# Altium integrated library Maxim Hot-Swap, PoE and Power Switching.IntLib: 10 symbols
Pins are listed as number, name and electrical type; pins without a type are passive.

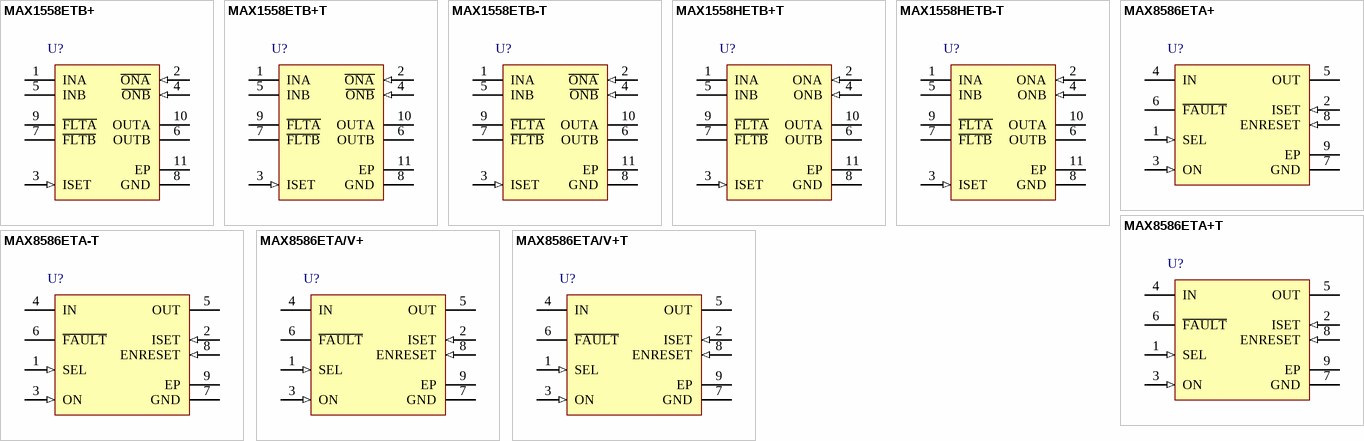
[diagram p0: symbols MAX1558ETB+ to MAX8586ETA/V+T]

## MAX1558ETB+
designator U?
Dual 1.2A Programmable-Current USB Switch with Autoreset, 10-Pin TDFN, -40°C to +85°C, Pb-Free; DatasheetVersion: Rev 2, Mar-2008; PackageVersion: revJ, 2009; PackageReference: T1033+1; PackageDescription: 10-Pin Plastic Very Very Thin Dual Flatpack No Leads, Exposed Pad, 3 x 3 x 0.8 mm Body, TDFN-EP, Pb-Free; Code_JEDEC: MO-229-WEED-3; ComponentLink1Description: Manufacturer URL; ComponentLink1URL: http://www.maxim-ic.com; ComponentLink2Description: Datasheet; ComponentLink2URL: http://datasheets.maxim-ic.com/en/ds/MAX1558-MAX1558H.pdf; ComponentLink3Description: Package Specification; ComponentLink3URL: http://pdfserv.maxim-ic.com/package_dwgs/21-0137.PDF
footprint T1033+1_V (SON, 10-Leads, Body 3x3mm, Pitch 0.5mm, Thermal Pad 2.35x1.58mm, Maxim Recommended)
pins: 1 INA (power), 2 ~{ONA} (in), 3 ISET (in), 4 ~{ONB} (in), 5 INB (power), 6 OUTB (power), 7 ~{FLTB} (oc), 8 GND (power), 9 ~{FLTA} (oc), 10 OUTA (power), 11 EP (power)

## MAX1558ETB+T
designator U?
Dual 1.2A Programmable-Current USB Switch with Autoreset, 10-Pin TDFN, -40°C to +85°C, Pb-Free, Tape and Reel; DatasheetVersion: Rev 2, Mar-2008; PackageVersion: revJ, 2009; PackageReference: T1033+1; PackageDescription: 10-Pin Plastic Very Very Thin Dual Flatpack No Leads, Exposed Pad, 3 x 3 x 0.8 mm Body, TDFN-EP, Pb-Free; Code_JEDEC: MO-229-WEED-3; ComponentLink1Description: Manufacturer URL; ComponentLink1URL: http://www.maxim-ic.com; ComponentLink2Description: Datasheet; ComponentLink2URL: http://datasheets.maxim-ic.com/en/ds/MAX1558-MAX1558H.pdf; ComponentLink3Description: Package Specification; ComponentLink3URL: http://pdfserv.maxim-ic.com/package_dwgs/21-0137.PDF
footprint T1033+1_V (SON, 10-Leads, Body 3x3mm, Pitch 0.5mm, Thermal Pad 2.35x1.58mm, Maxim Recommended)
pins: 1 INA (power), 2 ~{ONA} (in), 3 ISET (in), 4 ~{ONB} (in), 5 INB (power), 6 OUTB (power), 7 ~{FLTB} (oc), 8 GND (power), 9 ~{FLTA} (oc), 10 OUTA (power), 11 EP (power)

## MAX1558ETB-T
designator U?
Dual 1.2A Programmable-Current USB Switch with Autoreset, 10-Pin TDFN, -40°C to +85°C, Tape and Reel; DatasheetVersion: Rev 2, Mar-2008; PackageVersion: revJ, 2009; PackageReference: T1033-1; PackageDescription: 10-Pin Plastic Very Very Thin Dual Flatpack No Leads, Exposed Pad, 3 x 3 x 0.8 mm Body, TDFN-EP; Code_JEDEC: MO-229-WEED-3; ComponentLink1Description: Manufacturer URL; ComponentLink1URL: http://www.maxim-ic.com; ComponentLink2Description: Datasheet; ComponentLink2URL: http://datasheets.maxim-ic.com/en/ds/MAX1558-MAX1558H.pdf; ComponentLink3Description: Package Specification; ComponentLink3URL: http://pdfserv.maxim-ic.com/package_dwgs/21-0137.PDF
footprint T1033-1_V (SON, 10-Leads, Body 3x3mm, Pitch 0.5mm, Thermal Pad 2.35x1.58mm, Maxim Recommended)
pins: 1 INA (power), 2 ~{ONA} (in), 3 ISET (in), 4 ~{ONB} (in), 5 INB (power), 6 OUTB (power), 7 ~{FLTB} (oc), 8 GND (power), 9 ~{FLTA} (oc), 10 OUTA (power), 11 EP (power)

## MAX1558HETB+T
designator U?
Dual 1.2A Programmable-Current USB Switch with Autoreset, 10-Pin TDFN, -40°C to +85°C, Pb-Free, Tape and Reel; DatasheetVersion: Rev 2, Mar-2008; PackageVersion: revJ, 2009; PackageReference: T1033+1; PackageDescription: 10-Pin Plastic Very Very Thin Dual Flatpack No Leads, Exposed Pad, 3 x 3 x 0.8 mm Body, TDFN-EP, Pb-Free; Code_JEDEC: MO-229-WEED-3; ComponentLink1Description: Manufacturer URL; ComponentLink1URL: http://www.maxim-ic.com; ComponentLink2Description: Datasheet; ComponentLink2URL: http://datasheets.maxim-ic.com/en/ds/MAX1558-MAX1558H.pdf; ComponentLink3Description: Package Specification; ComponentLink3URL: http://pdfserv.maxim-ic.com/package_dwgs/21-0137.PDF
footprint T1033+1_V (SON, 10-Leads, Body 3x3mm, Pitch 0.5mm, Thermal Pad 2.35x1.58mm, Maxim Recommended)
pins: 1 INA (power), 2 ONA (in), 3 ISET (in), 4 ONB (in), 5 INB (power), 6 OUTB (power), 7 ~{FLTB} (oc), 8 GND (power), 9 ~{FLTA} (oc), 10 OUTA (power), 11 EP (power)

## MAX1558HETB-T
designator U?
Dual 1.2A Programmable-Current USB Switch with Autoreset, 10-Pin TDFN, -40°C to +85°C, Tape and Reel; DatasheetVersion: Rev 2, Mar-2008; PackageVersion: revJ, 2009; PackageReference: T1033-1; PackageDescription: 10-Pin Plastic Very Very Thin Dual Flatpack No Leads, Exposed Pad, 3 x 3 x 0.8 mm Body, TDFN-EP; Code_JEDEC: MO-229-WEED-3; ComponentLink1Description: Manufacturer URL; ComponentLink1URL: http://www.maxim-ic.com; ComponentLink2Description: Datasheet; ComponentLink2URL: http://datasheets.maxim-ic.com/en/ds/MAX1558-MAX1558H.pdf; ComponentLink3Description: Package Specification; ComponentLink3URL: http://pdfserv.maxim-ic.com/package_dwgs/21-0137.PDF
footprint T1033-1_V (SON, 10-Leads, Body 3x3mm, Pitch 0.5mm, Thermal Pad 2.35x1.58mm, Maxim Recommended)
pins: 1 INA (power), 2 ONA (in), 3 ISET (in), 4 ONB (in), 5 INB (power), 6 OUTB (power), 7 ~{FLTB} (oc), 8 GND (power), 9 ~{FLTA} (oc), 10 OUTA (power), 11 EP (power)

## MAX8586ETA+
designator U?
Single 1.2A USB Switch, 8-Pin TDFN, -40°C to +85°C, Pb-Free; DatasheetVersion: Rev 2, Jan-2010; PackageVersion: revJ, 2009; PackageReference: T833+2; PackageDescription: 8-Pin Plastic Very Very Thin Dual Flatpack No Leads, Exposed Pad, 3 x 3 x 0.8 mm Body, TDFN-EP, Pb-Free; Code_JEDEC: MO-229-WEEC; ComponentLink1Description: Manufacturer URL; ComponentLink1URL: http://www.maxim-ic.com; ComponentLink2Description: Datasheet; ComponentLink2URL: http://datasheets.maxim-ic.com/en/ds/MAX8586.pdf; ComponentLink3Description: Package Specification; ComponentLink3URL: http://pdfserv.maxim-ic.com/package_dwgs/21-0137.PDF
footprint T833+2 (SON, 8-Leads, Body 3x3 mm, Pitch 0.65mm, Thermal Pad 2.35x1.58mm, Maxim Recommended)
pins: 1 SEL (in), 2 ISET (in), 3 ON (in), 4 IN (power), 5 OUT (power), 6 ~{FAULT} (oc), 7 GND (power), 8 ENRESET (in), 9 EP (power)

## MAX8586ETA+T
designator U?
Single 1.2A USB Switch, 8-Pin TDFN, -40°C to +85°C, Pb-Free, Tape and Reel; DatasheetVersion: Rev 2, Jan-2010; PackageVersion: revJ, 2009; PackageReference: T833+2; PackageDescription: 8-Pin Plastic Very Very Thin Dual Flatpack No Leads, Exposed Pad, 3 x 3 x 0.8 mm Body, TDFN-EP, Pb-Free; Code_JEDEC: MO-229-WEEC; ComponentLink1Description: Manufacturer URL; ComponentLink1URL: http://www.maxim-ic.com; ComponentLink2Description: Datasheet; ComponentLink2URL: http://datasheets.maxim-ic.com/en/ds/MAX8586.pdf; ComponentLink3Description: Package Specification; ComponentLink3URL: http://pdfserv.maxim-ic.com/package_dwgs/21-0137.PDF
footprint T833+2 (SON, 8-Leads, Body 3x3 mm, Pitch 0.65mm, Thermal Pad 2.35x1.58mm, Maxim Recommended)
pins: 1 SEL (in), 2 ISET (in), 3 ON (in), 4 IN (power), 5 OUT (power), 6 ~{FAULT} (oc), 7 GND (power), 8 ENRESET (in), 9 EP (power)

## MAX8586ETA-T
designator U?
Single 1.2A USB Switch, 8-Pin TDFN, -40°C to +85°C, Tape and Reel; DatasheetVersion: Rev 2, Jan-2010; PackageVersion: revJ, 2009; PackageReference: T833-2; PackageDescription: 8-Pin Plastic Very Very Thin Dual Flatpack No Leads, Exposed Pad, 3 x 3 x 0.8 mm Body, TDFN-EP; Code_JEDEC: MO-229-WEEC; ComponentLink1Description: Manufacturer URL; ComponentLink1URL: http://www.maxim-ic.com; ComponentLink2Description: Datasheet; ComponentLink2URL: http://datasheets.maxim-ic.com/en/ds/MAX8586.pdf; ComponentLink3Description: Package Specification; ComponentLink3URL: http://pdfserv.maxim-ic.com/package_dwgs/21-0137.PDF
footprint T833-2 (SON, 8-Leads, Body 3x3 mm, Pitch 0.65mm, Thermal Pad 2.35x1.58mm, Maxim Recommended)
pins: 1 SEL (in), 2 ISET (in), 3 ON (in), 4 IN (power), 5 OUT (power), 6 ~{FAULT} (oc), 7 GND (power), 8 ENRESET (in), 9 EP (power)

## MAX8586ETA/V+
designator U?
Single 1.2A USB Switch, Automotive Qualified, 8-Pin TDFN, -40°C to +85°C, Pb-Free, Tape and Reel; DatasheetVersion: Rev 2, Jan-2010; PackageVersion: revJ, 2009; PackageReference: T833+2; PackageDescription: 8-Pin Plastic Very Very Thin Dual Flatpack No Leads, Exposed Pad, 3 x 3 x 0.8 mm Body, TDFN-EP, Pb-Free; Code_JEDEC: MO-229-WEEC; ComponentLink1Description: Manufacturer URL; ComponentLink1URL: http://www.maxim-ic.com; ComponentLink2Description: Datasheet; ComponentLink2URL: http://datasheets.maxim-ic.com/en/ds/MAX8586.pdf; ComponentLink3Description: Package Specification; ComponentLink3URL: http://pdfserv.maxim-ic.com/package_dwgs/21-0137.PDF
footprint T833+2 (SON, 8-Leads, Body 3x3 mm, Pitch 0.65mm, Thermal Pad 2.35x1.58mm, Maxim Recommended)
pins: 1 SEL (in), 2 ISET (in), 3 ON (in), 4 IN (power), 5 OUT (power), 6 ~{FAULT} (oc), 7 GND (power), 8 ENRESET (in), 9 EP (power)

## MAX8586ETA/V+T
designator U?
Single 1.2A USB Switch, Automotive Qualified, 8-Pin TDFN, -40°C to +85°C, Pb-Free, Tape and Reel; DatasheetVersion: Rev 2, Jan-2010; PackageVersion: revJ, 2009; PackageReference: T833+2; PackageDescription: 8-Pin Plastic Very Very Thin Dual Flatpack No Leads, Exposed Pad, 3 x 3 x 0.8 mm Body, TDFN-EP, Pb-Free; Code_JEDEC: MO-229-WEEC; ComponentLink1Description: Manufacturer URL; ComponentLink1URL: http://www.maxim-ic.com; ComponentLink2Description: Datasheet; ComponentLink2URL: http://datasheets.maxim-ic.com/en/ds/MAX8586.pdf; ComponentLink3Description: Package Specification; ComponentLink3URL: http://pdfserv.maxim-ic.com/package_dwgs/21-0137.PDF
footprint T833+2 (SON, 8-Leads, Body 3x3 mm, Pitch 0.65mm, Thermal Pad 2.35x1.58mm, Maxim Recommended)
pins: 1 SEL (in), 2 ISET (in), 3 ON (in), 4 IN (power), 5 OUT (power), 6 ~{FAULT} (oc), 7 GND (power), 8 ENRESET (in), 9 EP (power)